# EAGLE library part PIC18F6680 (library pic18f6680)
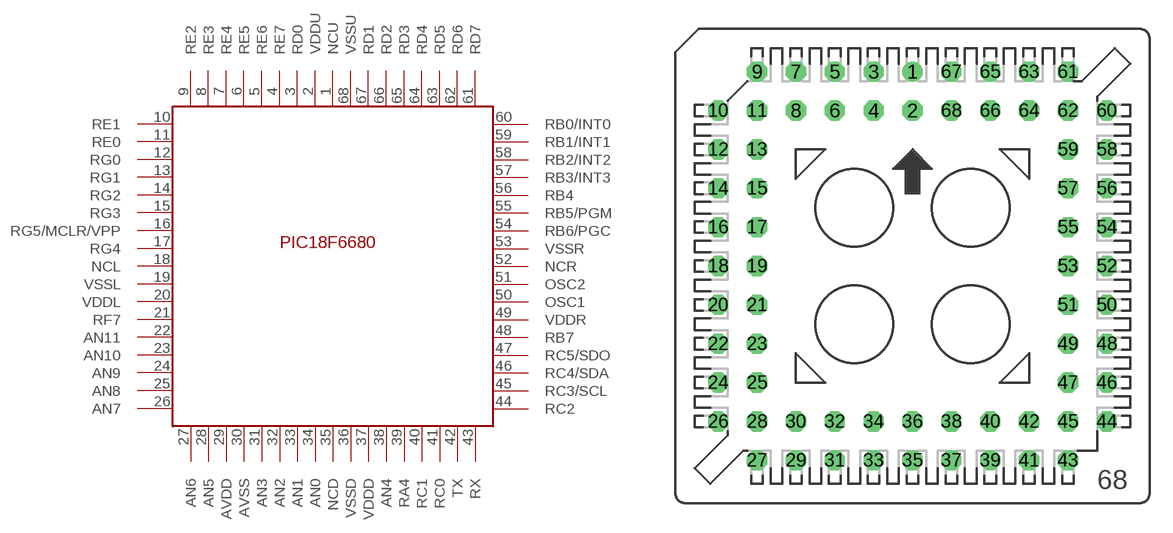
[diagram p0: symbol with the pads of S68; footprint S68]

Designator prefix PIC18F6680

## PIC18F6680I/L  [S68]
1  NCU
2  VDDU
3  RD0
4  RE7
5  RE6
6  RE5
7  RE4
8  RE3
9  RE2
10  RE1
11  RE0
12  RG0
13  RG1
14  RG2
15  RG3
16  RG5/MCLR/VPP
17  RG4
18  NCL
19  VSSL
20  VDDL
21  RF7
22  AN11
23  AN10
24  AN9
25  AN8
26  AN7
27  AN6
28  AN5
29  AVDD
30  AVSS
31  AN3
32  AN2
33  AN1
34  AN0
35  NCD
36  VSSD
37  VDDD
38  AN4
39  RA4
40  RC1
41  RC0
42  TX
43  RX
44  RC2
45  RC3/SCL
46  RC4/SDA
47  RC5/SDO
48  RB7
49  VDDR
50  OSC1
51  OSC2
52  NCR
53  VSSR
54  RB6/PGC
55  RB5/PGM
56  RB4
57  RB3/INT3
58  RB2/INT2
59  RB1/INT1
60  RB0/INT0
61  RD7
62  RD6
63  RD5
64  RD4
65  RD3
66  RD2
67  RD1
68  VSSU

## Footprint S68 (pad centres in mm)
PLCC SOCKET
drill 0.813 round: 1 0,12.7
drill 0.813 octagon: 2 0,10.16; 3 -2.54,12.7; 4 -2.54,10.16; 5 -5.08,12.7; 6 -5.08,10.16; 7 -7.62,12.7; 8 -7.62,10.16; 9 -10.16,12.7; 10 -12.7,10.16; 11 -10.16,10.16; 12 -12.7,7.62; 13 -10.16,7.62; 14 -12.7,5.08; 15 -10.16,5.08; 16 -12.7,2.54; 17 -10.16,2.54; 18 -12.7,0; 19 -10.16,0; 20 -12.7,-2.54; 21 -10.16,-2.54; 22 -12.7,-5.08; 23 -10.16,-5.08; 24 -12.7,-7.62; 25 -10.16,-7.62; 26 -12.7,-10.16; 27 -10.16,-12.7; 28 -10.16,-10.16; 29 -7.62,-12.7; 30 -7.62,-10.16; 31 -5.08,-12.7; 32 -5.08,-10.16; 33 -2.54,-12.7; 34 -2.54,-10.16; 35 0,-12.7; 36 0,-10.16; 37 2.54,-12.7; 38 2.54,-10.16; 39 5.08,-12.7; 40 5.08,-10.16; 41 7.62,-12.7; 42 7.62,-10.16; 43 10.16,-12.7; 44 12.7,-10.16; 45 10.16,-10.16; 46 12.7,-7.62; 47 10.16,-7.62; 48 12.7,-5.08; 49 10.16,-5.08; 50 12.7,-2.54; 51 10.16,-2.54; 52 12.7,0; 53 10.16,0; 54 12.7,2.54; 55 10.16,2.54; 56 12.7,5.08; 57 10.16,5.08; 58 12.7,7.62; 59 10.16,7.62; 60 12.7,10.16; 61 10.16,12.7; 62 10.16,10.16; 63 7.62,12.7; 64 7.62,10.16; 65 5.08,12.7; 66 5.08,10.16; 67 2.54,12.7; 68 2.54,10.16